# EAGLE library part HEXABIT_?_X2_NO_P5_P10_P11_P20 (library hexabitz_connectors)
Hexabitz Double Hexagon Module Connector Hexagon side length = 17.32mm. The following ports are removed: P5, P10, P11, P12
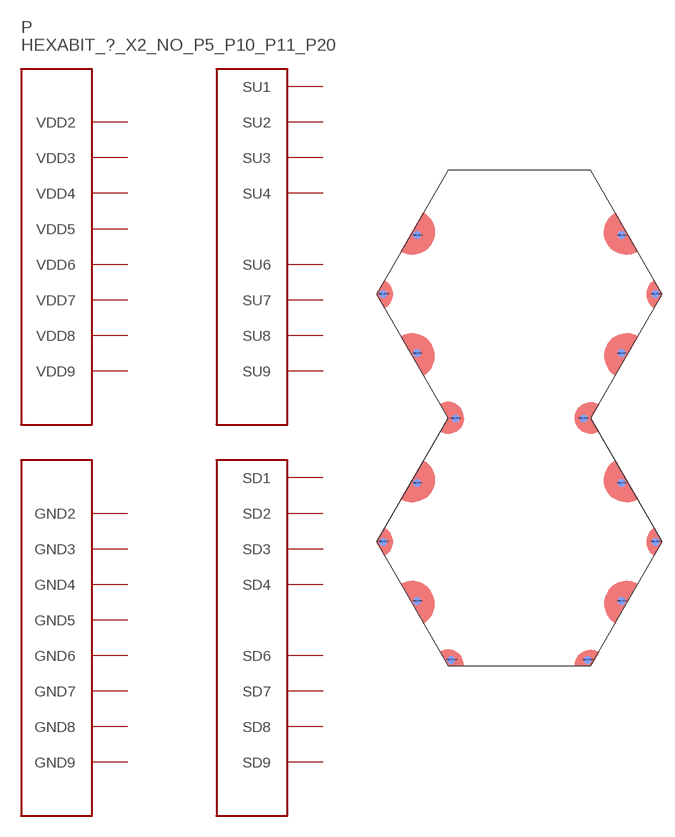
[diagram p14: symbol with the pads of HEXABIT_17.32_X2_NO_P5_P10_P11_P20; footprint HEXABIT_17.32_X2_NO_P5_P10_P11_P20]

Designator prefix P

## HEXABIT_17.32_X2_NO_P5_P10_P11_P20  [HEXABIT_17.32_X2_NO_P5_P10_P11_P20]
PAD_PD1  SD1
PAD_PD2  SD2
PAD_PD3  SD3
PAD_PD4  SD4
PAD_PD6  SD6
PAD_PD7  SD7
PAD_PD8  SD8
PAD_PD9  SD9
PAD_PD12  GND2  pwr
PAD_PD13  GND3  pwr
PAD_PD14  GND4  pwr
PAD_PD15  GND5  pwr
PAD_PD16  GND6  pwr
PAD_PD17  GND7  pwr
PAD_PD18  GND8  pwr
PAD_PD19  GND9  pwr
PAD_PU1  SU1
PAD_PU2  SU2
PAD_PU3  SU3
PAD_PU4  SU4
PAD_PU6  SU6
PAD_PU7  SU7
PAD_PU8  SU8
PAD_PU9  SU9
PAD_PU12  VDD2  pwr
PAD_PU13  VDD3  pwr
PAD_PU14  VDD4  pwr
PAD_PU15  VDD5  pwr
PAD_PU16  VDD6  pwr
PAD_PU17  VDD7  pwr
PAD_PU18  VDD8  pwr
PAD_PU19  VDD9  pwr

## Footprint HEXABIT_17.32_X2_NO_P5_P10_P11_P20 (pad centres in mm)
smd 1 x 1 bottom: PAD_PD1 12.39,7.15; PAD_PD2 12.39,-7.15; PAD_PD3 12.39,-22.85; PAD_PD4 12.39,-37.15; PAD_PD6 -12.39,-37.15; PAD_PD7 -12.39,-22.85; PAD_PD8 -12.39,-7.15; PAD_PD9 -12.39,7.15; PAD_PD12 16.52,0; PAD_PD13 7.752,-15.072; PAD_PD14 16.52,-30; PAD_PD15 8.26,-44.31; PAD_PD16 -8.26,-44.31; PAD_PD17 -16.52,-30; PAD_PD18 -7.752,-15.072; PAD_PD19 -16.52,0
smd 1 x 1: PAD_PU1 12.39,7.15; PAD_PU2 12.39,-7.15; PAD_PU3 12.39,-22.85; PAD_PU4 12.39,-37.15; PAD_PU6 -12.39,-37.15; PAD_PU7 -12.39,-22.85; PAD_PU8 -12.39,-7.15; PAD_PU9 -12.39,7.15; PAD_PU12 16.52,0; PAD_PU13 7.752,-15.072; PAD_PU14 16.52,-30; PAD_PU15 8.26,-44.31; PAD_PU16 -8.26,-44.31; PAD_PU17 -16.52,-30; PAD_PU18 -7.752,-15.072; PAD_PU19 -16.52,0